# Altium schematic symbol library comm sub.SchLib: 89 symbols (part 1 of 4)
Pins are listed as number, name and electrical type; pins without a type are passive.

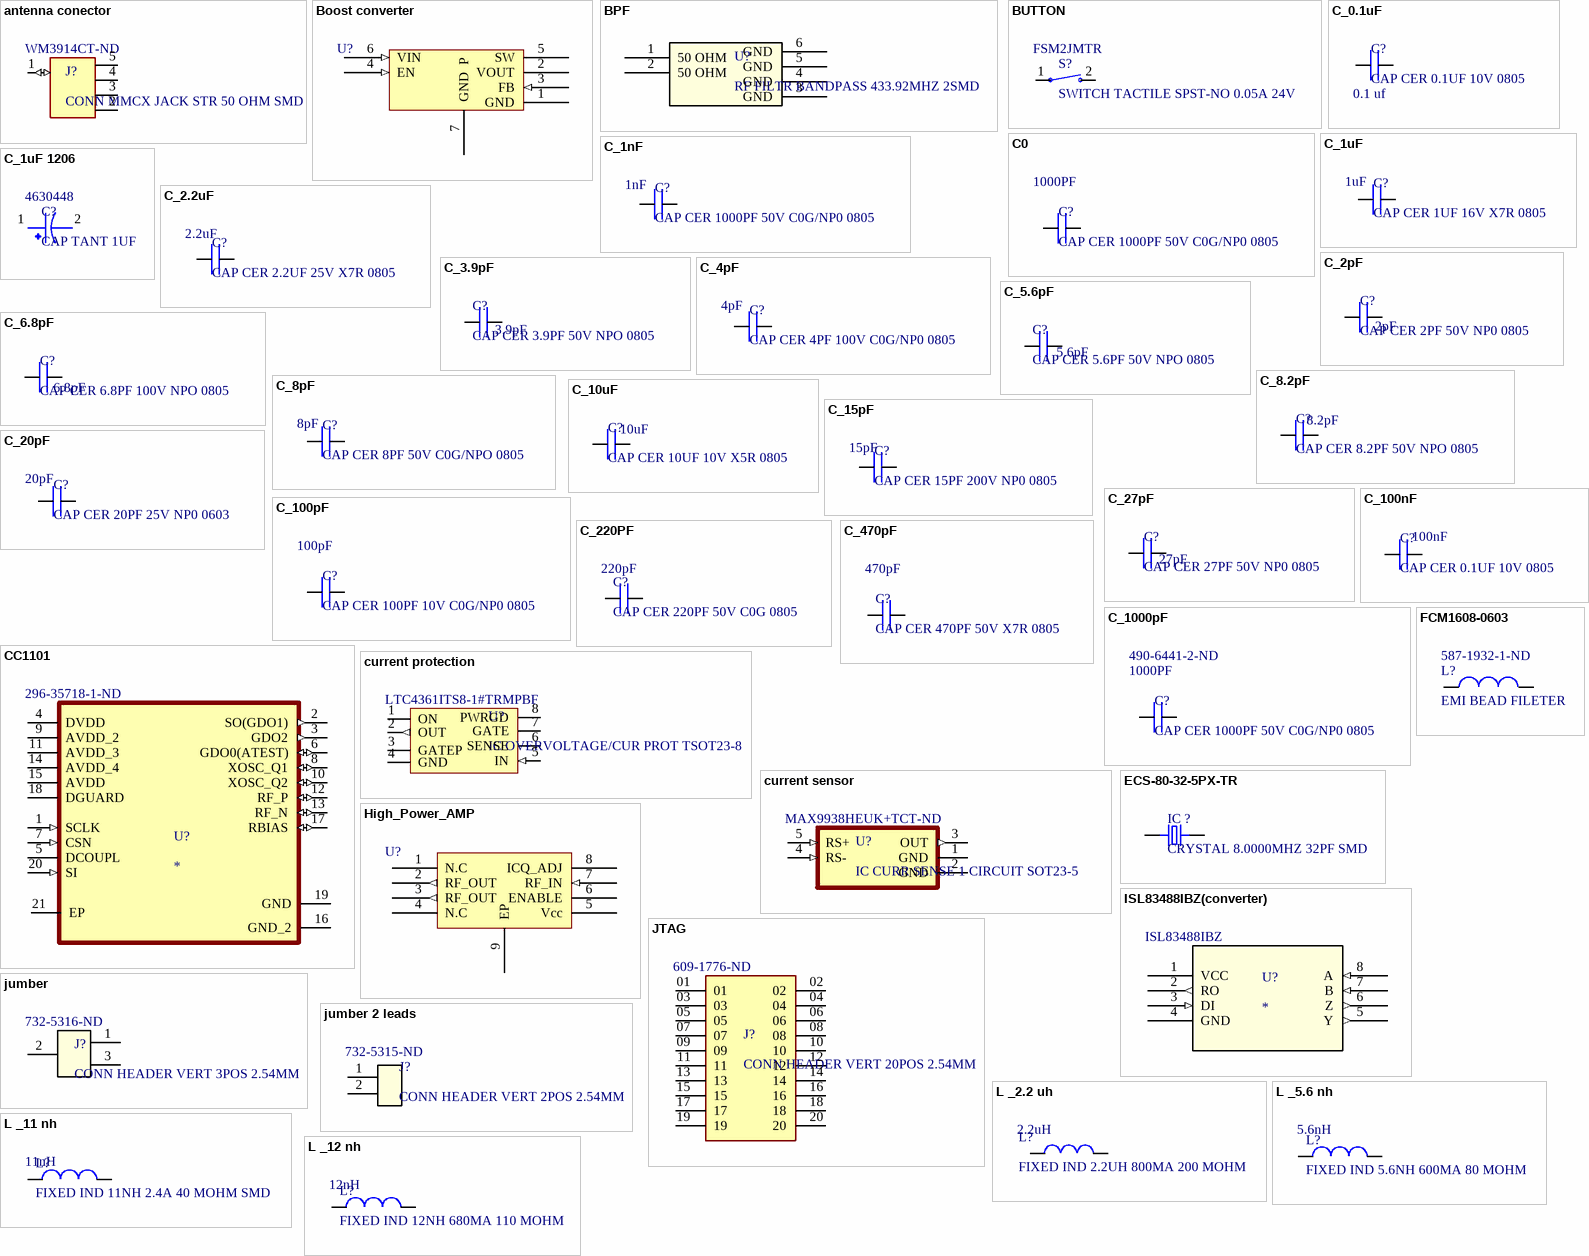
[diagram p0: symbols antenna conector to L _12 nh]

## antenna conector
designator J?, comment CONN MMCX JACK STR 50 OHM SMD  Supplier Part Number 1: WM3914CT-ND
MMCX Connector Jack, Female Socket 50Ohm Surface Mount Solder; Manufacturer: Molex; Manufacturer Part Number: 73415-2063; Body Material: Brass; Body Plating: Gold; Dielectric Material: PTFE; Connector Type: MMCX,Socket; Max Frequency: 6GHz; Impedance: 50R; Voltage Rating: 170V; Supplier 1: Digi-Key; RoHS: Yes; Stock 1: 581; Pricing 1: 1 = 2.24000, 10 = 1.90600, 100 = 1.57490 (USD); Mount: Surface Mount; Housing Color: Gold; Contact Plating: Gold; Contact Material: Copper; Insulation Material: Polytetrafluoroethylene; Min Operating Temperature: -55°C; Max Operating Temperature: 165°C; Termination: Solder; Package Quantity: 1; Fastening Type: Snap; Packaging: Tape and Reel; Orientation: Straight; Length: 3.45mm; Depth: 3.45mm; Radiation Hardening: No; ComponentLink1URL: https://datasheet.ciiva.com/643/734152063-sd-643539.pdf?src-supplier=Digi-Key; ComponentLink1Description: https://datasheet.ciiva.com/643/734152063-sd-643539.pdf?src-supplier=Digi-Key
footprint antenna connector (Footprint not found)
pins: 1 (io), 2 (power), 3 (power), 4 (power), 5 (power)

## Boost converter
designator U?, comment IC REG BOOST 3.6V 800MA 6WSON  (value not drawn)
Boost Switching Regulator IC Positive Fixed 3.6V 1 Output 800mA (Switch) 6-WDFN Exposed Pad; Supplier 1: Digi-Key; ComponentLink1Description: https://www.digikey.com/en/products/detail/texas-instruments/TPS610995DRVR/9343366; ComponentLink1URL: https://www.digikey.com/en/products/detail/texas-instruments/TPS610995DRVR/9343366; Supplier Part Number 1: 296-50423-2-ND; ComponentLink2Description: data sheet; ComponentLink2URL: https://www.ti.com/general/docs/suppproductinfo.tsp?distId=10&gotoUrl=http%3A%2F%2Fwww.ti.com%2Flit%2Fgpn%2Ftps61099
footprint Booster converter
pins: 1 GND (power), 2 VOUT (power), 3 FB (in), 4 EN (in), 5 SW (power), 6 VIN (in), 7 GND  P (power)

## BPF
designator U?, comment RF FILTR BANDPASS 433.92MHZ 2SMD
Signal Conditioning DBP.433.T.A.30 Dielectric Band Pass Filter for 433MHz; Manufacturer: Nichicon; Manufacturer Part Number: UPJ0J471MPD1TD; Dielectric Material: Aluminium; Tolerance: 20%; Voltage Rating: 6.3V; Ripple Current: 435mA; Impedance: 220mR; Life (Hours): 3000Hour; RoHS: Yes; Mount: Through Hole; Case/Package: Radial; Number of Pins: 2; Min Operating Temperature: -55°C; Max Operating Temperature: 105°C; Package Quantity: 1000; Packaging: Cut Tape; Voltage Rating (DC): 6.3V; Diameter: 8mm; Height: 15mm; Lead Pitch: 0.138inch; Height - Seated (Max): 0.65inch; Supplier 1: Digi-Key; Stock 1: 757; Pricing 1: 1 = 1.46000, 100 = 1.42000, 500 = 1.30000 (USD); ComponentLink1Description: https://eu.mouser.com/datasheet/2/398/DBP.433.T.A.30-1371952.pdf; ComponentLink1URL: https://eu.mouser.com/datasheet/2/398/DBP.433.T.A.30-1371952.pdf; Supplier Part Number 1: 931-1587-1-ND
footprint PBF
pins: 1 50 OHM (power), 2 50 OHM, 3 GND (power), 4 GND (power), 5 GND (power), 6 GND (power)

## BUTTON
designator S?, comment SWITCH TACTILE SPST-NO 0.05A 24V  Supplier Part Number 1: FSM2JMTR
Tactile Switch SPST-NO Top Actuated Surface Mount; Manufacturer: TE Connectivity; Manufacturer Part Number: 147873-1; Throw Configuration: SPST; Operating Force: 1.77N; Illumination Type: Non-Illuminated,Illuminated; Switch Function: Off-Mom; Voltage Rating (DC): 12V; Max Current Rating: 50mA; Actuator Length: 1.5mm; Supplier 1: Avnet; RoHS: Yes; Stock 1: 20350; Pricing 1: 1 = 0.14160, 10 = 0.22345, 30 = 0.22093, 50 = 0.22065, 100 = 0.21821, 250 = 0.19651, 500 = 0.15874, 1000 = 0.15360, 2500 = 0.14760 (USD); Mount: Surface Mount; Case/Package: SMD/SMT; Contact Material: Copper Alloy; Contact Plating: Silver; Material: Polyamide; Min Operating Temperature: -40°C; Max Operating Temperature: 85°C; Packaging: Tape and Reel; Current Rating: 50mA; Max Voltage Rating (DC): 12V; Package Quantity: 1800; Termination: J-Bend; Orientation: Straight; Contact Current Rating: 50mA; Type: Switch; Series: FSMJM; Length: 3.5mm; Height: 5mm; Depth: 6.8mm; Size: 6mm; Radiation Hardening: No; REACH SVHC: No SVHC; Lead Free: Lead Free; ELV: Compliant; Flammability Rating: UL94 V-0; RoHS Compliant: Yes; ComponentLink1URL: https://datasheet.ciiva.com/5285/ng-cd-147873-k3-196492-5285207.pdf?src-supplier=Mouser; ComponentLink1Description: https://datasheet.ciiva.com/5285/ng-cd-147873-k3-196492-5285207.pdf?src-supplier=Mouser
footprint button
pins: 1, 2

## C0
designator C?, comment CAP CER 1000PF 50V C0G/NP0 0805  Capacitance: 1000PF
1000pF ±1% 50V Ceramic Capacitor C0G, NP0 0805 (2012 Metric); Manufacturer: Murata; Manufacturer Part Number: GRM2165C1H102JA01J; Tolerance: 5%; Temperature Coefficient: 30ppm/°C; RoHS: Yes; Mount: Surface Mount; Case/Package: 0805; Case Code (Metric): 2012; Case Code (Imperial): 0805; Min Operating Temperature: -55°C; Max Operating Temperature: 125°C; Packaging: Tape and Reel; Package Quantity: 1; Voltage Rating: 50V; Voltage Rating (DC): 50V; Dielectric: C0G; Termination: SMD/SMT; Length: 2mm; Width: 0.049inch; Height: 0.6mm; Thickness: 0.028inch; Depth: 1.25mm; Radiation Hardening: No; Supplier 1: Digi-Key; Stock 1: 32000; Pricing 1: 4000 = 0.05780, 8000 = 0.05467, 12000 = 0.05186, 28000 = 0.04998 (USD); Voltage: 50V; Series: GRM; Construction: Flat; Lead Free: Lead Free; RoHS Compliant: Yes; ComponentLink8URL: https://datasheet.ciiva.com/6270/partnumbering-e-01-6270446.pdf?src-supplier=Digi-Key; ComponentLink8Description: https://datasheet.ciiva.com/6270/partnumbering-e-01-6270446.pdf?src-supplier=Digi-Key; Supplier Part Number 1: 490-6441-2-ND
footprint 0805 C
pins: 1, 2

## C_0.1uF
designator C?, comment CAP CER 0.1UF 10V 0805  capactanice: 0.1 uf
0.1µF ±10% 100V Ceramic Capacitor X7R 0805 (2012 Metric); Manufacturer: Johanson; Manufacturer Part Number: 160R15W104KV4T; Voltage Rating: 16V; ComponentLink1URL: https://datasheet.ciiva.com/2989/product-2989248.pdf?src-supplier=Avnet; ComponentLink1Description: https://datasheet.ciiva.com/2989/product-2989248.pdf?src-supplier=Avnet; Supplier 1: Digi-Key; RoHS: Yes; Stock 1: 45779; Pricing 1: 1 = 0.21000, 10 = 0.14200, 50 = 0.08520, 100 = 0.07190, 500 = 0.04920, 1000 = 0.04352 (USD); Mount: Surface Mount; Case/Package: 0805; Case Code (Metric): 2012; Case Code (Imperial): 0805; Min Operating Temperature: -55°C; Max Operating Temperature: 125°C; Package Quantity: 1; Tolerance: 10%; Packaging: Tape and Reel; Dielectric: X7R; Voltage Rating (DC): 16V; Termination: SMD/SMT; Series: -; Length: 0.08inch; Width: 0.05inch; Thickness: 0.05inch; RoHS Compliant: Yes; ComponentLink2URL: http://www.mouser.com/ds/2/611/JDI-Tanceram-516226.pdf?src-supplier=Mouser; ComponentLink2Description: http://www.mouser.com/ds/2/611/JDI-Tanceram-516226.pdf?src-supplier=Mouser; ComponentLink3URL: https://www.johansondielectrics.com/downloads/jdi-product-catalog.pdf?src-supplier=Digi-Key; ComponentLink3Description: https://www.johansondielectrics.com/downloads/jdi-product-catalog.pdf?src-supplier=Digi-Key; Supplier Part Number 1: 709-1183-1-ND
footprint 0805 C
pins: 1, 2

## C_1nF
designator C?, comment CAP CER 1000PF 50V C0G/NP0 0805  Capacitance: 1nF
1000pF ±1% 50V Ceramic Capacitor C0G, NP0 0805 (2012 Metric); Manufacturer: Murata; Manufacturer Part Number: GRM2165C1H102JA01J; Tolerance: 5%; Temperature Coefficient: 30ppm/°C; RoHS: Yes; Mount: Surface Mount; Case/Package: 0805; Case Code (Metric): 2012; Case Code (Imperial): 0805; Min Operating Temperature: -55°C; Max Operating Temperature: 125°C; Packaging: Tape and Reel; Package Quantity: 1; Voltage Rating: 50V; Voltage Rating (DC): 50V; Dielectric: C0G; Termination: SMD/SMT; Length: 2mm; Width: 0.049inch; Height: 0.6mm; Thickness: 0.028inch; Depth: 1.25mm; Radiation Hardening: No; Supplier 1: Digi-Key; Stock 1: 32000; Pricing 1: 4000 = 0.05780, 8000 = 0.05467, 12000 = 0.05186, 28000 = 0.04998 (USD); Voltage: 50V; Series: GRM; Construction: Flat; Lead Free: Lead Free; RoHS Compliant: Yes; ComponentLink3URL: https://datasheet.ciiva.com/6270/partnumbering-e-01-6270444.pdf?src-supplier=Digi-Key; ComponentLink3Description: https://datasheet.ciiva.com/6270/partnumbering-e-01-6270444.pdf?src-supplier=Digi-Key; Supplier Part Number 1: 490-6441-2-ND
footprint 0805 C
pins: 1, 2

## C_1uF
designator C?, comment CAP CER 1UF 16V X7R 0805  Capacitance: 1uF
1µF ±5% 16V Ceramic Capacitor X7R 0805 (2012 Metric); Manufacturer: Murata; Manufacturer Part Number: GRM219R61H105KA73D; Tolerance: 10%; Voltage Rating: 50V; Dielectric: X5R; Dissipation Factor: 0.025%; RoHS: Yes; Mount: Surface Mount; Case/Package: 0805; Number of Pins: 2; Case Code (Metric): 2012; Case Code (Imperial): 0805; Material: Ceramic; Weight: 0.000335oz; Dielectric Material: Ceramic; Min Operating Temperature: -55°C; Max Operating Temperature: 85°C; Packaging: Tape and Reel; Voltage: 50V; Termination: SMD/SMT; Resistor Type: Ceramic; Voltage Rating (DC): 50V; Package Quantity: 4000; Length: 2mm; Width: 1.25mm; Height: 0.85mm; Thickness: 0.037inch; Depth: 1.25mm; REACH SVHC: No SVHC; Lead Free: Lead Free; Features: Soft Termination; Ratings: AEC-Q200; Radiation Hardening: No; Supplier 1: Digi-Key; Stock 1: 54905; Pricing 1: 1 = 0.38000, 10 = 0.26100, 50 = 0.17420, 100 = 0.14810, 500 = 0.10454, 1000 = 0.09148 (USD); Series: C; Construction: Flat; Lead Pitch: 0.75mm; RoHS Compliant: Yes; ComponentLink1URL: http://www.farnell.com/datasheets/2746093.pdf?src-supplier=Farnell; ComponentLink1Description: http://www.farnell.com/datasheets/2746093.pdf?src-supplier=Farnell; Supplier Part Number 1: 399-8001-1-ND
footprint 0805 C
pins: 1, 2

## C_1uF 1206
designator C?, comment CAP TANT 1UF  Supplier Part Number 1: 4630448
1µF Molded Tantalum Capacitors 16V 1206 (3216 Metric) 11Ohm; Supplier 1: Future Electronics
footprint 1206 C
pins: 1, 2

## C_2.2uF
designator C?, comment CAP CER 2.2UF 25V X7R 0805  Capacitance: 2.2uF
2.2µF ±10% 25V Ceramic Capacitor X7R 0805 (2012 Metric); Manufacturer: Murata; Manufacturer Part Number: GRM21BR71E225KE11L; Voltage Rating: 6.3V; RoHS: No; Tolerance: 10%; Dielectric: X7R; Voltage Rating (DC): 25V; Length: 2mm; Width: 1.25mm; Thickness: 1.25mm; Mount: Surface Mount; Case/Package: 0805; Case Code (Metric): 2012; Case Code (Imperial): 0805; Min Operating Temperature: -55°C; Max Operating Temperature: 85°C; Packaging: Tape and Reel; Package Quantity: 1; Termination: SMD/SMT; Resistor Type: Ceramic; Height: 1.25mm; Depth: 1.25mm; Radiation Hardening: No; Lead Free: Lead Free; ComponentLink1URL: https://datasheet.ciiva.com/135/mlcc-all-e-135172.pdf?src-supplier=Digi-Key; ComponentLink1Description: https://datasheet.ciiva.com/135/mlcc-all-e-135172.pdf?src-supplier=Digi-Key; ComponentLink2URL: https://datasheet.ciiva.com/135/mlcc-all-e-135173.pdf?src-supplier=Digi-Key; ComponentLink2Description: https://datasheet.ciiva.com/135/mlcc-all-e-135173.pdf?src-supplier=Digi-Key; ComponentLink3URL: https://datasheet.ciiva.com/135/mlcc-all-e-135174.pdf?src-supplier=Digi-Key; ComponentLink3Description: https://datasheet.ciiva.com/135/mlcc-all-e-135174.pdf?src-supplier=Digi-Key; ComponentLink4URL: https://datasheet.ciiva.com/5423/mlcc-all-e-541559-5423227.pdf?src-supplier=Mouser; ComponentLink4Description: https://datasheet.ciiva.com/5423/mlcc-all-e-541559-5423227.pdf?src-supplier=Mouser; Supplier 1: Digi-Key; Supplier Part Number 1: 445-14535-1-ND
footprint 0805 C
pins: 1, 2

## C_2pF
designator C?, comment CAP CER 2PF 50V NP0 0805  Capacitance: 2pF
2pF ±0.25pF 100V Ceramic Capacitor C0G, NP0 0805 (2012 Metric); Manufacturer: Murata; Manufacturer Part Number: GQM2195C2A2R0CB01D; Temperature Coefficient: 30ppm/°C; RoHS: Yes; Mount: Surface Mount; Case/Package: 0805; Case Code (Metric): 2012; Case Code (Imperial): 0805; Min Operating Temperature: -55°C; Max Operating Temperature: 125°C; Dielectric: C0G; Packaging: Tape and Reel; Package Quantity: 1; Voltage Rating: 100V; Voltage Rating (DC): 100V; Termination: SMD/SMT; Voltage: 100V; Series: GQM; Construction: Flat; Length: 2mm; Width: 0.049inch; Height: 0.85mm; Depth: 1.25mm; Thickness: 0.037inch; Radiation Hardening: No; Lead Free: Lead Free; RoHS Compliant: Yes; ComponentLink1URL: https://datasheet.ciiva.com/11615/product-11615141.pdf?src-supplier=Avnet; ComponentLink1Description: https://datasheet.ciiva.com/11615/product-11615141.pdf?src-supplier=Avnet; ComponentLink2URL: https://datasheet.ciiva.com/11789/0900766b80936815-11789279.pdf?src-supplier=RSComponents; ComponentLink2Description: https://datasheet.ciiva.com/11789/0900766b80936815-11789279.pdf?src-supplier=RSComponents; ComponentLink3URL: https://datasheet.ciiva.com/140/partnumbering-e-01-140903.pdf?src-supplier=Digi-Key; ComponentLink3Description: https://datasheet.ciiva.com/140/partnumbering-e-01-140903.pdf?src-supplier=Digi-Key; ComponentLink4URL: https://datasheet.ciiva.com/140/partnumbering-e-01-140904.pdf?src-supplier=Digi-Key; ComponentLink4Description: https://datasheet.ciiva.com/140/partnumbering-e-01-140904.pdf?src-supplier=Digi-Key; ComponentLink5URL: https://datasheet.ciiva.com/140/partnumbering-e-01-140905.pdf?src-supplier=Digi-Key; ComponentLink5Description: https://datasheet.ciiva.com/140/partnumbering-e-01-140905.pdf?src-supplier=Digi-Key; ComponentLink6URL: https://datasheet.ciiva.com/5422/product-5422154.pdf?src-supplier=Mouser; ComponentLink6Description: https://datasheet.ciiva.com/5422/product-5422154.pdf?src-supplier=Mouser; Supplier 1: Arrow Electronics; Stock 1: 17; Pricing 1: 1 = 0.52120, 10 = 0.42210 (USD); Supplier Part Number 1: GQM2195C2A2R0CB01D
footprint 0805 C
pins: 1, 2

## C_3.9pF
designator C?, comment CAP CER 3.9PF 50V NPO 0805  Capacitance: 3.9pF
3.9pF ±0.1pF 50V Ceramic Capacitor C0G, NP0 0805 (2012 Metric); Manufacturer: Yageo; Manufacturer Part Number: CC0805BRNPO9BN3R9; ComponentLink1URL: https://datasheet.ciiva.com/11465/upy-gp-np0-16v-to-50v-8-11465221.pdf?src-supplier=Avnet; ComponentLink1Description: https://datasheet.ciiva.com/11465/upy-gp-np0-16v-to-50v-8-11465221.pdf?src-supplier=Avnet; ComponentLink2URL: https://datasheet.ciiva.com/13208/upy-gp-np0-16v-to-50v-8-13208540.pdf?src-supplier=Mouser; ComponentLink2Description: https://datasheet.ciiva.com/13208/upy-gp-np0-16v-to-50v-8-13208540.pdf?src-supplier=Mouser; ComponentLink3URL: https://datasheet.ciiva.com/17434/upy-gp-np0-16v-to-50v-8-17434543.pdf?src-supplier=Avnet+Europe; ComponentLink3Description: https://datasheet.ciiva.com/17434/upy-gp-np0-16v-to-50v-8-17434543.pdf?src-supplier=Avnet+Europe; Supplier 1: Digi-Key; RoHS: Yes; Stock 1: 4482; Pricing 1: 1 = 0.17000, 10 = 0.11900, 50 = 0.06740, 100 = 0.05580, 500 = 0.03912, 1000 = 0.03239 (USD); Mount: Surface Mount; Case/Package: 0805; Case Code (Imperial): 0805; Case Code (Metric): 2012; Weight: 0.000194oz; Min Operating Temperature: -55°C; Max Operating Temperature: 125°C; Packaging: Tape and Reel; Voltage Rating (DC): 50V; Voltage Rating: 50V; Dielectric: C0G; Termination: SMD/SMT; Resistor Type: Ceramic; Series: CC; Length: 2mm; Width: 0.049inch; Thickness: 0.028inch; Depth: 1.25mm; Radiation Hardening: No; Lead Free: Lead Free; RoHS Compliant: Yes; Supplier Part Number 1: 311-4131-1-ND
footprint 0805 C
pins: 1, 2

## C_4pF
designator C?, comment CAP CER 4PF 100V C0G/NP0 0805  Capacitance: 4pF
4pF ±0.25pF 100V Ceramic Capacitor C0G, NP0 0805 (2012 Metric); Manufacturer: Kyocera AVX; Manufacturer Part Number: 08051A4R0CAT2A; Temperature Coefficient: 0ppm/°C; Supplier 1: Digi-Key; RoHS: Yes; Stock 1: 6848; Pricing 1: 1 = 0.27000, 10 = 0.18200, 50 = 0.10900, 100 = 0.09200, 500 = 0.06292, 1000 = 0.05566 (USD); Mount: Surface Mount; Case/Package: 0805; Case Code (Imperial): 0805; Case Code (Metric): 2012; Min Operating Temperature: -55°C; Max Operating Temperature: 125°C; Dielectric: C0G; Termination: SMD/SMT; Packaging: Tape and Reel; Package Quantity: 4000; Voltage Rating: 100V; Voltage Rating (DC): 100V; Length: 2.01mm; Width: 1.25mm; Thickness: 0.037inch; Depth: 1.25mm; Radiation Hardening: No; ComponentLink1URL: https://datasheet.ciiva.com/11570/ccog-11570999.pdf?src-supplier=Avnet; ComponentLink1Description: https://datasheet.ciiva.com/11570/ccog-11570999.pdf?src-supplier=Avnet; ComponentLink2URL: https://datasheet.ciiva.com/5455/ccog-243403-5455672.pdf?src-supplier=Mouser; ComponentLink2Description: https://datasheet.ciiva.com/5455/ccog-243403-5455672.pdf?src-supplier=Mouser; ComponentLink3URL: https://datasheet.ciiva.com/205/ccog-205342.pdf?src-supplier=Digi-Key; ComponentLink3Description: https://datasheet.ciiva.com/205/ccog-205342.pdf?src-supplier=Digi-Key; Supplier Part Number 1: 478-10403-1-ND
footprint 0805 C
pins: 1, 2

## C_5.6pF
designator C?, comment CAP CER 5.6PF 50V NPO 0805  Capacitance: 5.6pF
5.6pF ±0.25pF 250V Ceramic Capacitor C0G, NP0 0805 (2012 Metric); Manufacturer: Murata; Manufacturer Part Number: GQM2195C2E5R6CB12D; ComponentLink1URL: https://datasheet.ciiva.com/11612/product-11612258.pdf?src-supplier=Avnet; ComponentLink1Description: https://datasheet.ciiva.com/11612/product-11612258.pdf?src-supplier=Avnet; ComponentLink2URL: https://datasheet.ciiva.com/141/partnumbering-e-01-141700.pdf?src-supplier=Digi-Key; ComponentLink2Description: https://datasheet.ciiva.com/141/partnumbering-e-01-141700.pdf?src-supplier=Digi-Key; ComponentLink3URL: https://datasheet.ciiva.com/141/partnumbering-e-01-141701.pdf?src-supplier=Digi-Key; ComponentLink3Description: https://datasheet.ciiva.com/141/partnumbering-e-01-141701.pdf?src-supplier=Digi-Key; ComponentLink4URL: https://datasheet.ciiva.com/141/partnumbering-e-01-141702.pdf?src-supplier=Digi-Key; ComponentLink4Description: https://datasheet.ciiva.com/141/partnumbering-e-01-141702.pdf?src-supplier=Digi-Key; Supplier 1: Digi-Key; RoHS: Yes; Stock 1: 2032; Pricing 1: 1 = 0.77000, 10 = 0.56500, 50 = 0.45220, 100 = 0.38760, 500 = 0.30682, 1000 = 0.25837 (USD); Mount: Surface Mount; Case/Package: 0805; Case Code (Metric): 2012; Case Code (Imperial): 0805; Min Operating Temperature: -55°C; Max Operating Temperature: 125°C; Packaging: Tape and Reel; Package Quantity: 1; Voltage Rating: 250V; Voltage Rating (DC): 250V; Dielectric: C0G; Termination: SMD/SMT; Series: GQM; Construction: Flat; Length: 2mm; Width: 0.049inch; Height: 0.85mm; Thickness: 0.039inch; Depth: 1.25mm; Radiation Hardening: No; RoHS Compliant: Yes; Supplier Part Number 1: 490-5291-1-ND
footprint 0805 C
pins: 1, 2

## C_6.8pF
designator C?, comment CAP CER 6.8PF 100V NPO 0805  Capacitance: 6.8pF
6.8pF ±0.25pF 250V Ceramic Capacitor C0G, NP0 0805 (2012 Metric); Manufacturer: Yageo; Manufacturer Part Number: CC0805CRNPO0BN6R8; Mount: Surface Mount; Case/Package: 0805; Min Operating Temperature: -55°C; Max Operating Temperature: 125°C; Packaging: Tape and Reel; Voltage Rating: 100V; Length: 0.079inch; Width: 0.049inch; Thickness: 0.028inch; Supplier 1: Digi-Key; RoHS: Yes; Stock 1: 10237; Pricing 1: 1 = 0.77000, 10 = 0.56500, 50 = 0.45220, 100 = 0.38760, 500 = 0.30682, 1000 = 0.25837 (USD); Case Code (Imperial): 0805; Case Code (Metric): 2012; Package Quantity: 1; Dielectric: C0G; Termination: SMD/SMT; Voltage Rating (DC): 250V; Series: GQM; Construction: Flat; Height: 0.85mm; Depth: 1.25mm; Radiation Hardening: No; RoHS Compliant: Yes; ComponentLink1URL: https://datasheet.ciiva.com/11611/product-11611526.pdf?src-supplier=Avnet; ComponentLink1Description: https://datasheet.ciiva.com/11611/product-11611526.pdf?src-supplier=Avnet; ComponentLink2URL: https://datasheet.ciiva.com/5424/product-5424762.pdf?src-supplier=Mouser; ComponentLink2Description: https://datasheet.ciiva.com/5424/product-5424762.pdf?src-supplier=Mouser; ComponentLink3URL: https://datasheet.ciiva.com/141/partnumbering-e-01-141709.pdf?src-supplier=Digi-Key; ComponentLink3Description: https://datasheet.ciiva.com/141/partnumbering-e-01-141709.pdf?src-supplier=Digi-Key; ComponentLink4URL: https://datasheet.ciiva.com/141/partnumbering-e-01-141710.pdf?src-supplier=Digi-Key; ComponentLink4Description: https://datasheet.ciiva.com/141/partnumbering-e-01-141710.pdf?src-supplier=Digi-Key; ComponentLink5URL: https://datasheet.ciiva.com/141/partnumbering-e-01-141711.pdf?src-supplier=Digi-Key; ComponentLink5Description: https://datasheet.ciiva.com/141/partnumbering-e-01-141711.pdf?src-supplier=Digi-Key; Supplier Part Number 1: 490-5292-1-ND
footprint 0805 C
pins: 1, 2

## C_8.2pF
designator C?, comment CAP CER 8.2PF 50V NPO 0805  Capacitance: 8.2pF
8.2pF ±0.25pF 250V Ceramic Capacitor C0G, NP0 0805 (2012 Metric); Manufacturer: Murata; Manufacturer Part Number: GQM2195C2E8R2CB12D; ComponentLink1URL: https://datasheet.ciiva.com/141/product-141873.pdf?src-supplier=Digi-Key; ComponentLink1Description: https://datasheet.ciiva.com/141/product-141873.pdf?src-supplier=Digi-Key; ComponentLink2URL: https://datasheet.ciiva.com/141/partnumbering-e-01-141874.pdf?src-supplier=Digi-Key; ComponentLink2Description: https://datasheet.ciiva.com/141/partnumbering-e-01-141874.pdf?src-supplier=Digi-Key; ComponentLink3URL: https://datasheet.ciiva.com/141/partnumbering-e-01-141875.pdf?src-supplier=Digi-Key; ComponentLink3Description: https://datasheet.ciiva.com/141/partnumbering-e-01-141875.pdf?src-supplier=Digi-Key; ComponentLink4URL: https://datasheet.ciiva.com/17453/product-17453367.pdf?src-supplier=Avnet+Europe; ComponentLink4Description: https://datasheet.ciiva.com/17453/product-17453367.pdf?src-supplier=Avnet+Europe; ComponentLink5URL: https://datasheet.ciiva.com/11610/product-11610072.pdf?src-supplier=Avnet; ComponentLink5Description: https://datasheet.ciiva.com/11610/product-11610072.pdf?src-supplier=Avnet; Supplier 1: Digi-Key; RoHS: Yes; Stock 1: 4740; Pricing 1: 1 = 0.84000, 10 = 0.62100, 50 = 0.49720, 100 = 0.42610, 500 = 0.33732, 1000 = 0.28406 (USD); Mount: Surface Mount; Case/Package: 0805; Case Code (Metric): 2012; Case Code (Imperial): 0805; Min Operating Temperature: -55°C; Max Operating Temperature: 125°C; Package Quantity: 1; Voltage Rating: 250V; Packaging: Tape and Reel; Voltage Rating (DC): 250V; Dielectric: C0G; Termination: SMD/SMT; Series: GQM; Construction: Flat; Length: 2mm; Width: 0.049inch; Height: 0.85mm; Thickness: 0.039inch; Depth: 1.25mm; Radiation Hardening: No; RoHS Compliant: Yes; Supplier Part Number 1: 490-5293-1-ND
footprint 0805 C
pins: 1, 2

## C_8pF
designator C?, comment CAP CER 8PF 50V C0G/NPO 0805  Capacitance: 8pF
8pF ±0.5pF 50V Ceramic Capacitor C0G, NP0 0805 (2012 Metric); Manufacturer: Yageo; Manufacturer Part Number: CC0805DRNPO9BN8R0; Supplier 1: Digi-Key; RoHS: Yes; Stock 1: 17978; Pricing 1: 1 = 0.11000, 10 = 0.08100, 50 = 0.04620, 100 = 0.03820, 500 = 0.02680, 1000 = 0.02219 (USD); Mount: Surface Mount; Case/Package: 0805; Case Code (Imperial): 0805; Weight: 0.000194oz; Case Code (Metric): 2012; Min Operating Temperature: -55°C; Max Operating Temperature: 125°C; Package Quantity: 1; Voltage Rating: 50V; Packaging: Tape and Reel; Voltage Rating (DC): 50V; Dielectric: C0G; Termination: SMD/SMT; Resistor Type: Ceramic; Length: 2mm; Width: 0.049inch; Thickness: 0.024inch; Depth: 1.25mm; Radiation Hardening: No; ComponentLink1URL: https://datasheet.ciiva.com/26936/getdatasheetpartid-782618-26936065.pdf?src-supplier=Verical; ComponentLink1Description: https://datasheet.ciiva.com/26936/getdatasheetpartid-782618-26936065.pdf?src-supplier=Verical; ComponentLink2URL: https://datasheet.ciiva.com/144/mlccorderingcode-144817.pdf?src-supplier=Digi-Key; ComponentLink2Description: https://datasheet.ciiva.com/144/mlccorderingcode-144817.pdf?src-supplier=Digi-Key; ComponentLink3URL: https://datasheet.ciiva.com/144/mlccorderingcode-144818.pdf?src-supplier=Digi-Key; ComponentLink3Description: https://datasheet.ciiva.com/144/mlccorderingcode-144818.pdf?src-supplier=Digi-Key; ComponentLink4URL: https://datasheet.ciiva.com/144/mlccorderingcode-144819.pdf?src-supplier=Digi-Key; ComponentLink4Description: https://datasheet.ciiva.com/144/mlccorderingcode-144819.pdf?src-supplier=Digi-Key; Supplier Part Number 1: 311-1097-1-ND
footprint 0805 C
pins: 1, 2

## C_10uF
designator C?, comment CAP CER 10UF 10V X5R 0805  Capacitance: 10uF
10µF ±10% 10V Ceramic Capacitor X5R 0805 (2012 Metric); Manufacturer: TDK; Manufacturer Part Number: C2012X5R1C106K085AC; Voltage Rating: 16V; RoHS: Yes; Mount: Surface Mount; Case/Package: 0805; Number of Pins: 2; Weight: 0.000194oz; Dielectric Material: Ceramic; Case Code (Metric): 2012; Case Code (Imperial): 0805; Min Operating Temperature: -55°C; Max Operating Temperature: 85°C; Tolerance: 10%; Packaging: Tape and Reel; Voltage Rating (DC): 16V; Package Quantity: 1; Termination: SMD/SMT; Resistor Type: Ceramic; Dielectric: X5R; Length: 2mm; Width: 0.049inch; Height: 0.85mm; Thickness: 0.037inch; Depth: 1.25mm; REACH SVHC: No SVHC; Lead Free: Lead Free; Supplier 1: Digi-Key; Stock 1: 2246101; Pricing 1: 1 = 0.13000, 10 = 0.09100, 50 = 0.05160, 100 = 0.04270, 500 = 0.02992, 1000 = 0.02478 (USD); Contact Plating: Tin; Series: CL; Construction: Flat; Radiation Hardening: No; RoHS Compliant: Yes; ComponentLink1URL: https://datasheet.ciiva.com/25730/cl21a106kpclqnc-25730594.pdf?src-supplier=Digi-Key; ComponentLink1Description: https://datasheet.ciiva.com/25730/cl21a106kpclqnc-25730594.pdf?src-supplier=Digi-Key; Supplier Part Number 1: 1276-2402-1-ND
footprint 0805 C
pins: 1, 2

## C_15pF
designator C?, comment CAP CER 15PF 200V NP0 0805  Capacitance: 15pF
15pF ±5% 250V Ceramic Capacitor C0G, NP0 0805 (2012 Metric); Manufacturer: Murata; Manufacturer Part Number: GRM21A5C2D150JW01D; RoHS: Yes; Mount: Surface Mount; Case/Package: 0805; Material: Ceramic; Min Operating Temperature: -55°C; Max Operating Temperature: 125°C; Tolerance: 5%; Voltage Rating (DC): 200V; Packaging: Tape and Reel; Voltage Rating: 200V; Length: 0.079inch; Width: 0.049inch; Height: 1mm; Thickness: 0.051inch; Case Code (Metric): 2012; Case Code (Imperial): 0805; ComponentLink1URL: http://www.farnell.com/datasheets/2546613.pdf?src-supplier=Farnell; ComponentLink1Description: http://www.farnell.com/datasheets/2546613.pdf?src-supplier=Farnell; ComponentLink2URL: https://www.mouser.com/ds/2/445/885012007001-553794.pdf?src-supplier=Mouser; ComponentLink2Description: https://www.mouser.com/ds/2/445/885012007001-553794.pdf?src-supplier=Mouser; ComponentLink3URL: https://katalog.we-online.de/pbs/datasheet/885012007001.pdf?src-supplier=Digi-Key; ComponentLink3Description: https://katalog.we-online.de/pbs/datasheet/885012007001.pdf?src-supplier=Digi-Key; Supplier 1: Digi-Key; Stock 1: 29080; Pricing 1: 1 = 0.38000, 10 = 0.26000, 50 = 0.17340, 100 = 0.14740, 500 = 0.10402, 1000 = 0.09101 (USD); Package Quantity: 4000; Dielectric: C0G; Termination: SMD/SMT; Series: GRM; Construction: Flat; Depth: 1.25mm; Radiation Hardening: No; REACH SVHC: No SVHC; Lead Free: Lead Free; RoHS Compliant: Yes; ComponentLink4URL: https://datasheet.ciiva.com/137/partnumbering-e-01-137457.pdf?src-supplier=Digi-Key; ComponentLink4Description: https://datasheet.ciiva.com/137/partnumbering-e-01-137457.pdf?src-supplier=Digi-Key; ComponentLink5URL: https://datasheet.ciiva.com/137/partnumbering-e-01-137458.pdf?src-supplier=Digi-Key; ComponentLink5Description: https://datasheet.ciiva.com/137/partnumbering-e-01-137458.pdf?src-supplier=Digi-Key; ComponentLink6URL: https://datasheet.ciiva.com/137/partnumbering-e-01-137459.pdf?src-supplier=Digi-Key; ComponentLink6Description: https://datasheet.ciiva.com/137/partnumbering-e-01-137459.pdf?src-supplier=Digi-Key; Supplier Part Number 1: 490-5532-1-ND
footprint 0805 C
pins: 1, 2

## C_20pF
designator C?, comment CAP CER 20PF 25V NP0 0603  Capacitance: 20pF
20pF ±1% 25V Ceramic Capacitor C0G, NP0 0603 (1608 Metric); Manufacturer: Yageo; Manufacturer Part Number: CC0805CRNPO0BN6R8; Voltage Rating: 100V; Voltage Rating (DC): 16V; Tolerance: 5%; Mount: Surface Mount; Case/Package: 0805; Min Operating Temperature: -55°C; Max Operating Temperature: 125°C; Packaging: Tape and Reel; Length: 0.079inch; Width: 0.049inch; Thickness: 0.028inch; RoHS: Yes; Case Code (Imperial): 0805; Case Code (Metric): 2012; Weight: 0.000194oz; Dielectric Material: Ceramic; Package Quantity: 1; Dielectric: C0G; Termination: SMD/SMT; Height: 0.78mm; Depth: 1.25mm; Lead Free: Lead Free; Number of Pins: 2; Radiation Hardening: No; ComponentLink1URL: https://datasheet.ciiva.com/11546/ccog-11546630.pdf?src-supplier=Avnet; ComponentLink1Description: https://datasheet.ciiva.com/11546/ccog-11546630.pdf?src-supplier=Avnet; ComponentLink2URL: https://datasheet.ciiva.com/5445/ccog-5445511.pdf?src-supplier=Mouser; ComponentLink2Description: https://datasheet.ciiva.com/5445/ccog-5445511.pdf?src-supplier=Mouser; ComponentLink3URL: https://datasheet.ciiva.com/203/ccog-203979.pdf?src-supplier=Digi-Key; ComponentLink3Description: https://datasheet.ciiva.com/203/ccog-203979.pdf?src-supplier=Digi-Key; Supplier 1: Digi-Key; Supplier Part Number 1: 399-9987-1-ND
footprint 0805 C
pins: 1, 2

## C_27pF
designator C?, comment CAP CER 27PF 50V NP0 0805  Capacitance: 27pF
27pF ±5% 250V Ceramic Capacitor C0G, NP0 0805 (2012 Metric); Manufacturer: Murata; Manufacturer Part Number: GRM21A5C2E270JW01D; ComponentLink1URL: https://datasheet.ciiva.com/157/partnumbering-e-01-157424.pdf?src-supplier=Digi-Key; ComponentLink1Description: https://datasheet.ciiva.com/157/partnumbering-e-01-157424.pdf?src-supplier=Digi-Key; ComponentLink2URL: https://datasheet.ciiva.com/157/partnumbering-e-01-157425.pdf?src-supplier=Digi-Key; ComponentLink2Description: https://datasheet.ciiva.com/157/partnumbering-e-01-157425.pdf?src-supplier=Digi-Key; ComponentLink3URL: https://datasheet.ciiva.com/157/partnumbering-e-01-157426.pdf?src-supplier=Digi-Key; ComponentLink3Description: https://datasheet.ciiva.com/157/partnumbering-e-01-157426.pdf?src-supplier=Digi-Key; ComponentLink4URL: https://datasheet.ciiva.com/7828/1666664-7828983.pdf?src-supplier=Element14; ComponentLink4Description: https://datasheet.ciiva.com/7828/1666664-7828983.pdf?src-supplier=Element14; Supplier 1: Digi-Key; RoHS: Yes; Stock 1: 62662; Pricing 1: 1 = 0.31000, 10 = 0.21200, 50 = 0.14100, 100 = 0.11990, 500 = 0.08464, 1000 = 0.07406 (USD); Mount: Surface Mount; Case/Package: 0805; Case Code (Metric): 2012; Case Code (Imperial): 0805; Min Operating Temperature: -55°C; Max Operating Temperature: 125°C; Package Quantity: 1; Voltage Rating: 250V; Tolerance: 5%; Packaging: Tape and Reel; Voltage Rating (DC): 250V; Dielectric: C0G; Termination: SMD/SMT; Series: GRM; Construction: Flat; Length: 2mm; Width: 0.049inch; Height: 1mm; Thickness: 0.039inch; Depth: 1.25mm; Radiation Hardening: No; REACH SVHC: No SVHC; RoHS Compliant: Yes; Supplier Part Number 1: 490-5535-1-ND
footprint 0805 C
pins: 1, 2

## C_100nF
designator C?, comment CAP CER 0.1UF 10V 0805  Capacitance: 100nF
0.1µF ±10% 16V Ceramic Capacitor X7R 0805 (2012 Metric); Manufacturer: Johanson; Manufacturer Part Number: 160R15W104KV4T; Supplier 1: Digi-Key; RoHS: Yes; Stock 1: 45779; Pricing 1: 1 = 0.21000, 10 = 0.14200, 50 = 0.08520, 100 = 0.07190, 500 = 0.04920, 1000 = 0.04352 (USD); Mount: Surface Mount; Case/Package: 0805; Case Code (Metric): 2012; Case Code (Imperial): 0805; Min Operating Temperature: -55°C; Max Operating Temperature: 125°C; Package Quantity: 1; Voltage Rating: 16V; Tolerance: 10%; Packaging: Tape and Reel; Dielectric: X7R; Voltage Rating (DC): 16V; Termination: SMD/SMT; Series: -; Length: 0.08inch; Width: 0.05inch; Thickness: 0.05inch; RoHS Compliant: Yes; Supplier Part Number 1: 709-1183-1-ND; ComponentLink1Description: https://www.johansondielectrics.com/downloads/catalog/johanson-dielectrics-product-catalog.pdf; ComponentLink1URL: https://www.johansondielectrics.com/downloads/catalog/johanson-dielectrics-product-catalog.pdf
footprint 0805 C
pins: 1, 2

## C_100pF
designator C?, comment CAP CER 100PF 10V C0G/NP0 0805  Capacitance: 100pF
100pF ±5% 250V Ceramic Capacitor C0G, NP0 0805 (2012 Metric); Manufacturer: Wurth Electronics; Manufacturer Part Number: 885012007004; RoHS: Yes; Mount: Surface Mount; Case/Package: 0805; Case Code (Metric): 2012; Case Code (Imperial): 0805; Min Operating Temperature: -55°C; Max Operating Temperature: 125°C; Packaging: Tape and Reel; Voltage Rating: 10V; Tolerance: 5%; Length: 0.079inch; Width: 0.049inch; Thickness: 0.028inch; ComponentLink1URL: http://www.farnell.com/datasheets/2546615.pdf?src-supplier=Farnell; ComponentLink1Description: http://www.farnell.com/datasheets/2546615.pdf?src-supplier=Farnell; Supplier 1: Digi-Key; Stock 1: 36709; Pricing 1: 1 = 0.38000, 10 = 0.26000, 50 = 0.17340, 100 = 0.14740, 500 = 0.10402, 1000 = 0.09101 (USD); Material: Ceramic; Package Quantity: 1; Voltage Rating (DC): 250V; Dielectric: C0G; Termination: SMD/SMT; Series: GRM; Construction: Flat; Height: 1mm; Depth: 1.25mm; Radiation Hardening: No; REACH SVHC: No SVHC; Lead Free: Lead Free; RoHS Compliant: Yes; ComponentLink2URL: https://datasheet.ciiva.com/137/partnumbering-e-01-137493.pdf?src-supplier=Digi-Key; ComponentLink2Description: https://datasheet.ciiva.com/137/partnumbering-e-01-137493.pdf?src-supplier=Digi-Key; ComponentLink3URL: https://datasheet.ciiva.com/5417/product-5417781.pdf?src-supplier=Mouser; ComponentLink3Description: https://datasheet.ciiva.com/5417/product-5417781.pdf?src-supplier=Mouser; ComponentLink4URL: https://datasheet.ciiva.com/137/partnumbering-e-01-137494.pdf?src-supplier=Digi-Key; ComponentLink4Description: https://datasheet.ciiva.com/137/partnumbering-e-01-137494.pdf?src-supplier=Digi-Key; ComponentLink5URL: https://datasheet.ciiva.com/137/partnumbering-e-01-137495.pdf?src-supplier=Digi-Key; ComponentLink5Description: https://datasheet.ciiva.com/137/partnumbering-e-01-137495.pdf?src-supplier=Digi-Key; Supplier Part Number 1: 490-5542-1-ND
footprint 0805 C
pins: 1, 2

## C_220PF
designator C?, comment CAP CER 220PF 50V C0G 0805  Capacitance: 220pF
220pF ±5% 50V Ceramic Capacitor C0G, NP0 0805 (2012 Metric); Manufacturer: Murata; Manufacturer Part Number: GRM2165C1H221JA01D; Temperature Coefficient: 30ppm/°C; ComponentLink1URL: https://datasheet.ciiva.com/5416/product-5416289.pdf?src-supplier=Mouser; ComponentLink1Description: https://datasheet.ciiva.com/5416/product-5416289.pdf?src-supplier=Mouser; ComponentLink2URL: https://datasheet.ciiva.com/18101/getdatasheetpartid-44079-18101350.pdf?src-supplier=Verical; ComponentLink2Description: https://datasheet.ciiva.com/18101/getdatasheetpartid-44079-18101350.pdf?src-supplier=Verical; ComponentLink3URL: https://datasheet.ciiva.com/29201/452213-da-01-en-vs-kondensator-0805-29201498.pdf?src-supplier=Conrad; ComponentLink3Description: https://datasheet.ciiva.com/29201/452213-da-01-en-vs-kondensator-0805-29201498.pdf?src-supplier=Conrad; ComponentLink4URL: https://datasheet.ciiva.com/161/partnumbering-e-01-161888.pdf?src-supplier=Digi-Key; ComponentLink4Description: https://datasheet.ciiva.com/161/partnumbering-e-01-161888.pdf?src-supplier=Digi-Key; ComponentLink5URL: https://datasheet.ciiva.com/14116/grmseries-tc-hitype-eng-14116806.pdf?src-supplier=Distrelec; ComponentLink5Description: https://datasheet.ciiva.com/14116/grmseries-tc-hitype-eng-14116806.pdf?src-supplier=Distrelec; ComponentLink6URL: https://datasheet.ciiva.com/16381/product-16381990.pdf?src-supplier=Future+Electronics; ComponentLink6Description: https://datasheet.ciiva.com/16381/product-16381990.pdf?src-supplier=Future+Electronics; ComponentLink7URL: https://datasheet.ciiva.com/7828/608985-7828956.pdf?src-supplier=Element14; ComponentLink7Description: https://datasheet.ciiva.com/7828/608985-7828956.pdf?src-supplier=Element14; ComponentLink8URL: https://datasheet.ciiva.com/22703/608985-22703452.pdf?src-supplier=Element14; ComponentLink8Description: https://datasheet.ciiva.com/22703/608985-22703452.pdf?src-supplier=Element14; ComponentLink9URL: https://datasheet.ciiva.com/161/partnumbering-e-01-161886.pdf?src-supplier=Digi-Key; ComponentLink9Description: https://datasheet.ciiva.com/161/partnumbering-e-01-161886.pdf?src-supplier=Digi-Key; ComponentLink10URL: https://datasheet.ciiva.com/161/partnumbering-e-01-161887.pdf?src-supplier=Digi-Key; ComponentLink10Description: https://datasheet.ciiva.com/161/partnumbering-e-01-161887.pdf?src-supplier=Digi-Key; Supplier 1: Digi-Key; RoHS: Yes; Stock 1: 83558; Pricing 1: 1 = 0.19000, 10 = 0.13400, 50 = 0.07620, 100 = 0.06320, 500 = 0.04428, 1000 = 0.03666 (USD); Mount: Surface Mount; Case/Package: 0805; Number of Pins: 2; Case Code (Metric): 2012; Case Code (Imperial): 0805; Material: Ceramic; Min Operating Temperature: -55°C; Max Operating Temperature: 125°C; Package Quantity: 10; Voltage Rating: 50V; Tolerance: 5%; Packaging: Tape and Reel; Voltage Rating (DC): 50V; Dielectric: C0G; Termination: SMD/SMT; Voltage: 50V; Series: GRM; Construction: Flat; Length: 2mm; Width: 0.049inch; Height: 0.6mm; Thickness: 0.028inch; Depth: 1.25mm; Radiation Hardening: No; REACH SVHC: No SVHC; Lead Free: Lead Free; RoHS Compliant: Yes; Supplier Part Number 1: 490-1616-1-ND
footprint 0805 C
pins: 1, 2

## C_470pF
designator C?, comment CAP CER 470PF 50V X7R 0805  Capacitance: 470pF
470pF ±10% 50V Ceramic Capacitor X7R 0805 (2012 Metric); Manufacturer: Yageo; Manufacturer Part Number: CC0805KRX7R9BB471; Insulation Resistance: 100GR; RoHS: Yes; Mount: Surface Mount; Case/Package: 0805; Number of Pins: 2; Case Code (Imperial): 0805; Case Code (Metric): 2012; Material: Ceramic; Dielectric Material: Ceramic; Min Operating Temperature: -55°C; Max Operating Temperature: 125°C; Package Quantity: 1; Voltage Rating: 50V; Voltage Rating (DC): 50V; Tolerance: 10%; Packaging: Tape and Reel; Dielectric: X7R; Termination: SMD/SMT; Resistor Type: Ceramic; Length: 2mm; Width: 1.25mm; Height: 0.6mm; Thickness: 0.024inch; Depth: 1.25mm; Radiation Hardening: No; REACH SVHC: Unknown; Lead Free: Lead Free; Halogen Free: Halogen Free; ComponentLink1URL: http://www.farnell.com/datasheets/2546627.pdf?src-supplier=Farnell; ComponentLink1Description: http://www.farnell.com/datasheets/2546627.pdf?src-supplier=Farnell; ComponentLink2URL: https://katalog.we-online.de/pbs/datasheet/885012007020.pdf?src-supplier=Digi-Key; ComponentLink2Description: https://katalog.we-online.de/pbs/datasheet/885012007020.pdf?src-supplier=Digi-Key; Supplier 1: Digi-Key; Supplier Part Number 1: 311-1124-1-ND
footprint 0805 C
pins: 1, 2

## C_1000pF
designator C?, comment CAP CER 1000PF 50V C0G/NP0 0805  Capacitance: 1000PF  Supplier Part Number 1: 490-6441-2-ND
1000pF ±1% 50V Ceramic Capacitor C0G, NP0 0805 (2012 Metric); Manufacturer: Murata; Manufacturer Part Number: GRM2165C1H102JA01J; Tolerance: 5%; Temperature Coefficient: 30ppm/°C; RoHS: Yes; Mount: Surface Mount; Case/Package: 0805; Case Code (Metric): 2012; Case Code (Imperial): 0805; Min Operating Temperature: -55°C; Max Operating Temperature: 125°C; Packaging: Tape and Reel; Package Quantity: 1; Voltage Rating: 50V; Voltage Rating (DC): 50V; Dielectric: C0G; Termination: SMD/SMT; Length: 2mm; Width: 0.049inch; Height: 0.6mm; Thickness: 0.028inch; Depth: 1.25mm; Radiation Hardening: No; Supplier 1: Digi-Key; Stock 1: 32000; Pricing 1: 4000 = 0.05780, 8000 = 0.05467, 12000 = 0.05186, 28000 = 0.04998 (USD); Voltage: 50V; Series: GRM; Construction: Flat; Lead Free: Lead Free; RoHS Compliant: Yes; ComponentLink1URL: https://datasheet.ciiva.com/11787/0900766b80ef921d-11787493.pdf?src-supplier=RSComponents; ComponentLink1Description: https://datasheet.ciiva.com/11787/0900766b80ef921d-11787493.pdf?src-supplier=RSComponents; ComponentLink2URL: https://datasheet.ciiva.com/11621/c02e-11621337.pdf?src-supplier=Avnet; ComponentLink2Description: https://datasheet.ciiva.com/11621/c02e-11621337.pdf?src-supplier=Avnet; ComponentLink3URL: https://datasheet.ciiva.com/6270/partnumbering-e-01-6270444.pdf?src-supplier=Digi-Key; ComponentLink3Description: https://datasheet.ciiva.com/6270/partnumbering-e-01-6270444.pdf?src-supplier=Digi-Key; ComponentLink4URL: https://datasheet.ciiva.com/6270/partnumbering-e-01-6270445.pdf?src-supplier=Digi-Key; ComponentLink4Description: https://datasheet.ciiva.com/6270/partnumbering-e-01-6270445.pdf?src-supplier=Digi-Key; ComponentLink5URL: https://datasheet.ciiva.com/6270/partnumbering-e-01-6270446.pdf?src-supplier=Digi-Key; ComponentLink5Description: https://datasheet.ciiva.com/6270/partnumbering-e-01-6270446.pdf?src-supplier=Digi-Key
footprint 0805 C
pins: 1, 2

## CC1101
designator U?  Supplier Part Number 1: 296-35718-1-ND
Supplier 1: Digi-Key
footprint CC1101
pins: 1 SCLK (in), 2 SO(GDO1) (out), 3 GDO2 (out), 4 DVDD (power), 5 DCOUPL (power), 6 GDO0(ATEST) (io), 7 CSN (in), 8 XOSC_Q1 (io), 9 AVDD_2 (power), 10 XOSC_Q2 (io), 11 AVDD_3 (power), 12 RF_P (io), 13 RF_N (io), 14 AVDD_4 (power), 15 AVDD (power), 16 GND_2, 17 RBIAS (io), 18 DGUARD (power), 19 GND, 20 SI (in), 21 EP

## current protection
designator U?, comment IC OVERVOLTAGE/CUR PROT TSOT23-8  Supplier Part Number 1: LTC4361ITS8-1#TRMPBF
Handheld/Mobile Devices PMIC TSOT-23-8; ComponentLink1Description: https://www.digikey.com/en/products/detail/analog-devices-inc/LTC4361CTS8-1-TRMPBF/2297144; ComponentLink1URL: https://www.digikey.com/en/products/detail/analog-devices-inc/LTC4361CTS8-1-TRMPBF/2297144; ComponentLink2Description: data sheet; ComponentLink2URL: https://www.analog.com/media/en/technical-documentation/data-sheets/LTC4361-1-4361-2.pdf; Supplier 1: Arrow Electronics
footprint current protection (SOIC, 8-Leads, Body 2.90x1.60mm, Pitch 1.27mm, IPC Medium Density)
pins: 1 ON, 2 OUT (out), 3 GATEP (power), 4 GND (power), 5 IN (in), 6 SENSE, 7 GATE (power), 8 PWRGD (power)

## current sensor
designator U?, comment IC CURR SENSE 1 CIRCUIT SOT23-5  Supplier Part Number 1: MAX9938HEUK+TCT-ND
Current Sense Amplifier 1 Circuit  SOT-23-5; Manufacturer: Maxim; MP: MAX9938FEUK+T; MF: Maxim Integrated; Max Power Dissipation: 312mW; Nominal Supply Current: 1uA; Output Voltage: 200mV; Common Mode Rejection Ratio: 130dB; Max Supply Voltage: 28V; Min Supply Voltage: 1.6V; Bandwidth: 125kHz; -3db Bandwidth: 60kHz; Number of Circuits: 1; Input Offset Voltage (Vos): 500uV; Operating Supply Current: 1.1uA; Input Bias Current: 200nA; Purchase-URL: https://pricing.snapeda.com/search/part/MAX9938FEUK+T/?ref=eda; Price: None; Availability: Warning; SnapEDA_Link: https://www.snapeda.com/parts/MAX9938FEUK+T/Maxim%20Integrated/view-part/559558/?ref=snap; Check_prices: https://www.snapeda.com/parts/MAX9938FEUK+T/Maxim%20Integrated/view-part/559558/?ref=eda; Value: *; Package: SOT-5 Maxim; Manufacturer Part Number: MAX9938FEUK+T; RoHS: Yes; Case/Package: SOT-23-5; Number of Pins: 5; Min Operating Temperature: -40°C; Max Operating Temperature: 85°C; Packaging: Cut Tape; Package Quantity: 1; Number of Amplifiers: 1; Gain Bandwidth Product: 125kHz; Radiation Hardening: No; REACH SVHC: Unknown; Supplier 1: Digi-Key; Stock 1: 2603; Pricing 1: 1 = 1.74000, 10 = 1.56400, 25 = 1.47520, 100 = 1.23900 (USD); Contact Plating: Tin,Matte; ComponentLink6URL: https://datasheet.ciiva.com/1485/max9938-1485035.pdf?src-supplier=Element14; ComponentLink6Description: https://datasheet.ciiva.com/1485/max9938-1485035.pdf?src-supplier=Element14
footprint current sensor (SOT23, 5-Leads, Body 2.90x2.48mm, Pitch 0.95mm, IPC Medium Density)
pins: 1 GND (power), 2 GND (power), 3 OUT (out), 4 RS- (in), 5 RS+ (in)

## ECS-80-32-5PX-TR
designator IC ?, comment CRYSTAL 8.0000MHZ 32PF SMD
8MHz Â±30ppm Crystal 32pF 60 Ohms HC-49/US; Manufacturer: ECS International; MF: ECS Inc.; MP: ECS-80-32-5PX-TR; Tolerance: 30ppm; ESR (Equivalent Series Resistance): 60R; Frequency Stability: 50ppm; Digi-Key_Purchase_URL: https://www.digikey.ru/product-detail/en/ecs-inc/ECS-80-32-5PX-TR/XC1272CT-ND/827736?utm_source=snapeda&utm_medium=aggregator&utm_campaign=symbol; Value: *; Digi-Key_Part_Number: XC1272CT-ND; Package: HC49/US ECS International; SnapEDA_Link: https://www.snapeda.com/parts/ECS-80-32-5PX-TR/ECS%20Inc./view-part/903429/?ref=snap; Supplier 1: Digi-Key; Manufacturer Part Number: ECS-80-32-5PX-TR; RoHS: Yes; Stock 1: 3024; Pricing 1: 1 = 0.45000, 10 = 0.37500, 50 = 0.33760, 100 = 0.30000, 500 = 0.28500 (USD); Mount: Surface Mount; Min Operating Temperature: -10°C; Max Operating Temperature: 70°C; Frequency: 8MHz; Package Quantity: 1000; Load Capacitance: 32pF; Packaging: Tape and Reel; Frequency Tolerance: 30ppm; Termination: SMD/SMT; Length: 0.449inch; Width: 4.8mm; Height: 0.169inch; Lead Free: Lead Free; ComponentLink1URL: https://datasheet.ciiva.com/852/csm-7x-852413.pdf?src-supplier=Digi-Key; ComponentLink1Description: https://datasheet.ciiva.com/852/csm-7x-852413.pdf?src-supplier=Digi-Key; ComponentLink2URL: https://datasheet.ciiva.com/852/csm-7x-852414.pdf?src-supplier=Digi-Key; ComponentLink2Description: https://datasheet.ciiva.com/852/csm-7x-852414.pdf?src-supplier=Digi-Key; ComponentLink3URL: https://datasheet.ciiva.com/852/csm-7x-852415.pdf?src-supplier=Digi-Key; ComponentLink3Description: https://datasheet.ciiva.com/852/csm-7x-852415.pdf?src-supplier=Digi-Key; Supplier Part Number 1: XC1272CT-ND
footprint XTAL_ECS-80-32-5PX-TR
pins: 1, 2

## FCM1608-0603
designator L?, comment EMI BEAD FILETER  Supplier Part Number 1: 587-1932-1-ND
60 Ohms @ 100MHz 1 Power Line Ferrite Bead 0805 (2012 Metric) 3A 25mOhm; Supplier 1: Digi-Key
footprint 0805 C
pins: 1    , 2

## High_Power_AMP
designator U?, comment IC AMP ISM 400MHZ-2.7GHZ 8HVSON  (value not drawn)
RF Amplifier IC ISM 400MHz ~ 2.7GHz 8-HVSON (3x3); Supplier 1: Digi-Key; Supplier Part Number 1: 568-13780-1-ND; ComponentLink2Description: https://www.digikey.com/en/products/detail/nxp-usa-inc/BGA6130118/3679111?s=N4IgTCBcDaIEIHECCA2AjAZgAwgLoF8g; ComponentLink2URL: https://www.digikey.com/en/products/detail/nxp-usa-inc/BGA6130118/3679111?s=N4IgTCBcDaIEIHECCA2AjAZgAwgLoF8g; ComponentLink3Description: data sheet; ComponentLink3URL: https://www.nxp.com/docs/en/data-sheet/BGA6130.pdf
footprint high power amplifier
pins: 1 N.C, 2 RF_OUT (out), 3 RF_OUT (out), 4 N.C, 5 Vcc (power), 6 ENABLE, 7 RF_IN (in), 8 ICQ_ADJ, 9 EP (power)

## ISL83488IBZ(converter)
designator U?  Supplier Part Number 1: ISL83488IBZ
Supplier 1: Arrow Electronics
footprint ISL83488IBZ
pins: 1 VCC (power), 2 RO (out), 3 DI (in), 4 GND (power), 5 Y (out), 6 Z (out), 7 B (in), 8 A (in)

## JTAG
designator J?, comment CONN HEADER VERT 20POS 2.54MM  Supplier Part Number 1: 609-1776-ND
Connector Header Through Hole 20 position 0.100" (2.54mm); ComponentLink1URL: https://datasheet.ciiva.com/11746/0900766b80d79252-11746787.pdf?src-supplier=RSComponents; ComponentLink1Description: https://datasheet.ciiva.com/11746/0900766b80d79252-11746787.pdf?src-supplier=RSComponents; ComponentLink2URL: https://datasheet.ciiva.com/8046/8378-8046504.pdf?src-supplier=Element14; ComponentLink2Description: https://datasheet.ciiva.com/8046/8378-8046504.pdf?src-supplier=Element14; ComponentLink3URL: https://datasheet.ciiva.com/713/75869-713538.pdf?src-supplier=Digi-Key; ComponentLink3Description: https://datasheet.ciiva.com/713/75869-713538.pdf?src-supplier=Digi-Key; ComponentLink4URL: https://datasheet.ciiva.com/14640/70236764-14640853.pdf?src-supplier=Allied+Electronics; ComponentLink4Description: https://datasheet.ciiva.com/14640/70236764-14640853.pdf?src-supplier=Allied+Electronics; ComponentLink5URL: https://datasheet.ciiva.com/3118/75869-3118553.pdf?src-supplier=Avnet; ComponentLink5Description: https://datasheet.ciiva.com/3118/75869-3118553.pdf?src-supplier=Avnet; Supplier 1: Digi-Key
footprint JTAG
pins: 01, 02, 03, 04, 05, 06, 07, 08, 09, 10, 11, 12, 13, 14, 15, 16, 17, 18, 19, 20

## jumber
designator J?, comment CONN HEADER VERT 3POS 2.54MM  Supplier Part Number 1: 732-5316-ND
Connector Header Through Hole 3 position 0.100" (2.54mm); Manufacturer: Harwin; Manufacturer Part Number: M20-9990345; Contact Resistance: 25mR; Max Current Rating: 3A; Number of Positions: 3; Connector Type: Male Pin; Insulation Resistance: 10GR; Voltage Rating (AC): 750V; Gender: Male; RoHS: Yes; Mount: Through Hole; Case/Package: SIL; Contact Material: Brass,Bronze; Color: Black; Housing Color: Black; Housing Material: Nylon; Contact Plating: Gold; Weight: 0.006138oz; Min Operating Temperature: -40°C; Max Operating Temperature: 105°C; Number of Rows: 1; Package Quantity: 1000; Packaging: Bulk; Termination: Solder; Number of Contacts: 3; Orientation: Straight; Current Rating: 3A; Series: M20; Contact Type: Male Pin; Length: 7.62mm; Width: 0.25inch; Height: 0.125inch; Pitch: 2.54mm; Depth: 2.54mm; Contact Mating Length: 0.24inch; Radiation Hardening: No; REACH SVHC: No SVHC; RoHS Compliant: Yes; Supplier 1: Digi-Key; Stock 1: 36526; Pricing 1: 1 = 0.13000, 10 = 0.10600, 25 = 0.08800, 50 = 0.07400, 100 = 0.06700, 1000 = 0.06100 (USD); Lead Free: Lead Free; ComponentLink1URL: http://www.farnell.com/cad/1737268.pdf?src-supplier=Element14; ComponentLink1Description: http://www.farnell.com/cad/1737268.pdf?src-supplier=Element14; ComponentLink2URL: https://katalog.we-online.de/em/datasheet/6130xx11121.pdf?src-supplier=Digi-Key; ComponentLink2Description: https://katalog.we-online.de/em/datasheet/6130xx11121.pdf?src-supplier=Digi-Key
footprint jumber
pins: 1, 2, 3